# Altium schematic symbol library ЭЛВИС.SchLib: 1 symbol
Pins are listed as number, name and electrical type; pins without a type are passive.

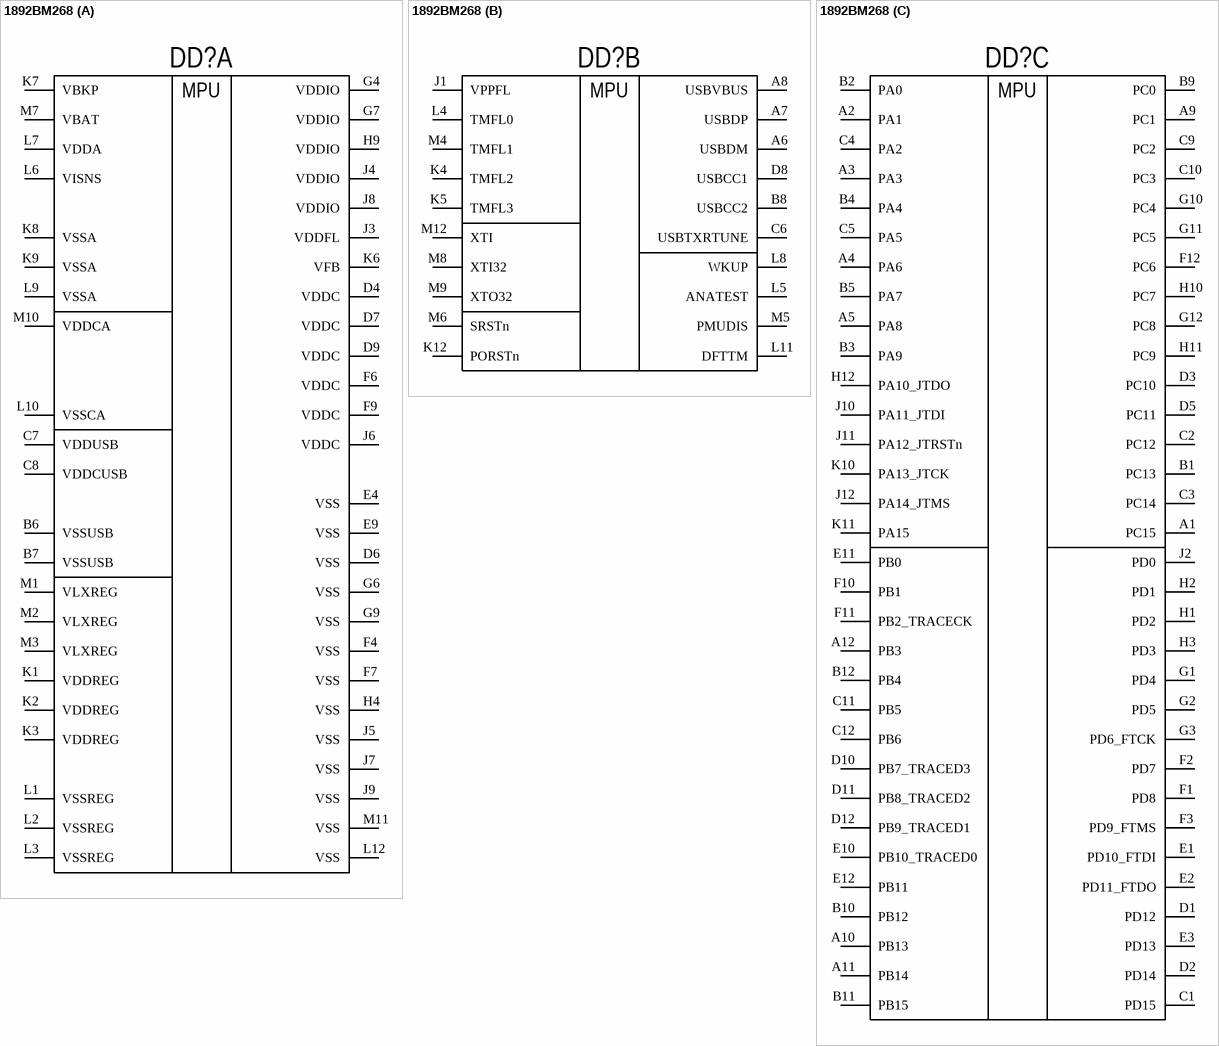
[diagram p0: symbol 1892ВМ268]

## 1892ВМ268
designator DD?  (value not drawn)
Value BOM: Микросхема интегральная 1892ВМ268; Case addition: BGA-132; Class: Микросхема интегральная; Note: ф. АО НПЦ "ЭЛВИС"; TY: РАЯЖ.431282.014; Value: 1892ВМ268
footprint BGA132 (BGA-132 ; 132 Pins with a 0.50mm Pitch (PTSL))
part A pins: B6 VSSUSB, B7 VSSUSB, C7 VDDUSB, C8 VDDCUSB, D4 VDDC, D6 VSS, D7 VDDC, D9 VDDC, E4 VSS, E9 VSS, F4 VSS, F6 VDDC, F7 VSS, F9 VDDC, G4 VDDIO, G6 VSS, G7 VDDIO, G9 VSS, H4 VSS, H9 VDDIO, J3 VDDFL, J4 VDDIO, J5 VSS, J6 VDDC, J7 VSS, J8 VDDIO, J9 VSS, K1 VDDREG, K2 VDDREG, K3 VDDREG, K6 VFB, K7 VBKP, K8 VSSA, K9 VSSA, L1 VSSREG, L2 VSSREG, L3 VSSREG, L6 VISNS, L7 VDDA, L9 VSSA, L10 VSSCA, L12 VSS, M1 VLXREG, M2 VLXREG, M3 VLXREG, M7 VBAT, M10 VDDCA, M11 VSS
part B pins: A6 USBDM, A7 USBDP, A8 USBVBUS, B8 USBCC2, C6 USBTXRTUNE, D8 USBCC1, J1 VPPFL, K4 TMFL2, K5 TMFL3, K12 PORSTn, L4 TMFL0, L5 ANATEST, L8 WKUP, L11 DFTTM, M4 TMFL1, M5 PMUDIS, M6 SRSTn, M8 XTI32, M9 XTO32, M12 XTI
part C pins: A1 PC15, A2 PA1, A3 PA3, A4 PA6, A5 PA8, A9 PC1, A10 PB13, A11 PB14, A12 PB3, B1 PC13, B2 PA0, B3 PA9, B4 PA4, B5 PA7, B9 PC0, B10 PB12, B11 PB15, B12 PB4, C1 PD15, C2 PC12, C3 PC14, C4 PA2, C5 PA5, C9 PC2, C10 PC3, C11 PB5, C12 PB6, D1 PD12, D2 PD14, D3 PC10, D5 PC11, D10 PB7_TRACED3, D11 PB8_TRACED2, D12 PB9_TRACED1, E1 PD10_FTDI, E2 PD11_FTDO, E3 PD13, E10 PB10_TRACED0, E11 PB0, E12 PB11, F1 PD8, F2 PD7, F3 PD9_FTMS, F10 PB1, F11 PB2_TRACECK, F12 PC6, G1 PD4, G2 PD5, G3 PD6_FTCK, G10 PC4, G11 PC5, G12 PC8, H1 PD2, H2 PD1, H3 PD3, H10 PC7, H11 PC9, H12 PA10_JTDO, J2 PD0, J10 PA11_JTDI, J11 PA12_JTRSTn, J12 PA14_JTMS, K10 PA13_JTCK, K11 PA15
part A text: MPU
part B text: MPU
part C text: MPU